# Altium schematic symbol library DRV8833.Schlib: 1 symbol
Pins are listed as number, name and electrical type; pins without a type are passive.

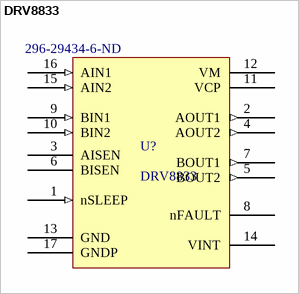
[diagram p0: symbol DRV8833]

## DRV8833
designator U?  Supplier Part Number 1: 296-29434-6-ND
Simple Dual H-bridge motor driver (with 2 NMOFETS). Supply voltage range 2.7V~10.8V, output current up to 2A per H-bridge (coil); Supplier 1: Digi-Key
footprint SOP65P640X120-17N (Standard SOP package with PowerPAD)
pins: 1 nSLEEP (in), 2 AOUT1 (out), 3 AISEN, 4 AOUT2 (out), 5 BOUT2 (out), 6 BISEN, 7 BOUT1 (out), 8 nFAULT, 9 BIN1 (in), 10 BIN2 (in), 11 VCP (power), 12 VM (power), 13 GND (power), 14 VINT (power), 15 AIN2 (in), 16 AIN1 (in), 17 GNDP (power)